# Altium footprint library BTB-P08.PcbLib: 3 footprints
Each footprint in its own frame and in the unit in brackets; x right, y up, seen from the top. Pads: shape width x height; smd on the part's side, far side on the other; paste and mask are expansions set on the pad; w line width, h text height; cw(c..) or ccw(c..) is an arc to the next point about the centre after c.
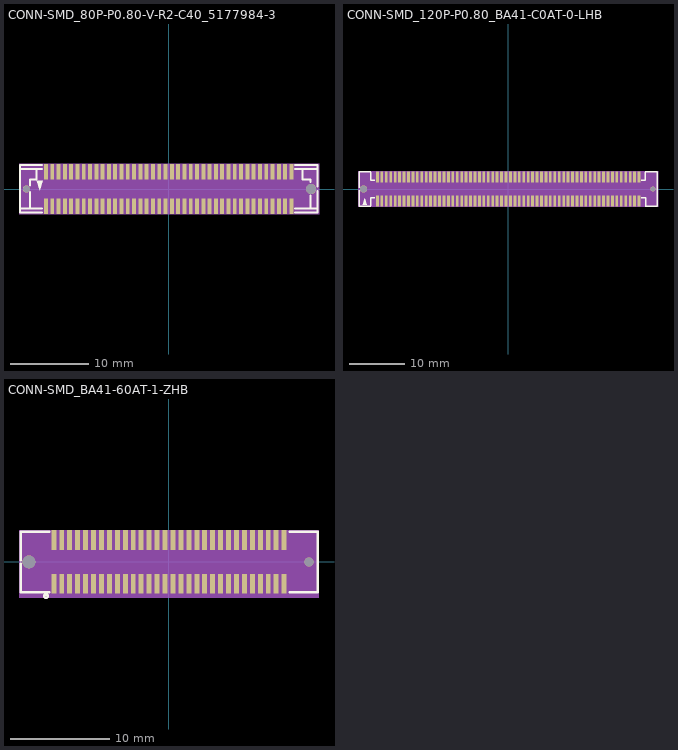
[diagram p0: the footprints below, top view; thin cyan lines are the x and y axes]

## CONN-SMD_80P-P0.80-V-R2-C40_5177984-3 [mm]
pads (82):
  rect 0.5x2 smd: 1(-15.6,2.2) 2(-15.6,-2.2) 3(-14.8,2.2) 4(-14.8,-2.2) 5(-14,2.2) 6(-14,-2.2) 7(-13.2,2.2) 8(-13.2,-2.2) 9(-12.4,2.2) 10(-12.4,-2.2) 11(-11.6,2.2) 12(-11.6,-2.2) 13(-10.8,2.2) 14(-10.8,-2.2) 15(-10,2.2) 16(-10,-2.2) 17(-9.2,2.2) 18(-9.2,-2.2) 19(-8.4,2.2) 20(-8.4,-2.2) 21(-7.6,2.2) 22(-7.6,-2.2) 23(-6.8,2.2) 24(-6.8,-2.2) 25(-6,2.2) 26(-6,-2.2) 27(-5.2,2.2) 28(-5.2,-2.2) 29(-4.4,2.2) 30(-4.4,-2.2) 31(-3.6,2.2) 32(-3.6,-2.2) 33(-2.8,2.2) 34(-2.8,-2.2) 35(-2,2.2) 36(-2,-2.2) 37(-1.2,2.2) 38(-1.2,-2.2) 39(-0.4,2.2) 40(-0.4,-2.2) 41(0.4,2.2) 42(0.4,-2.2) 43(1.2,2.2) 44(1.2,-2.2) 45(2,2.2) 46(2,-2.2) 47(2.8,2.2) 48(2.8,-2.2) 49(3.6,2.2) 50(3.6,-2.2) 51(4.4,2.2) 52(4.4,-2.2) 53(5.2,2.2) 54(5.2,-2.2) 55(6,2.2) 56(6,-2.2) 57(6.8,2.2) 58(6.8,-2.2) 59(7.6,2.2) 60(7.6,-2.2) 61(8.4,2.2) 62(8.4,-2.2) 63(9.2,2.2) 64(9.2,-2.2) 65(10,2.2) 66(10,-2.2) 67(10.8,2.2) 68(10.8,-2.2) 69(11.6,2.2) 70(11.6,-2.2) 71(12.4,2.2) 72(12.4,-2.2) 73(13.2,2.2) 74(13.2,-2.2) 75(14,2.2) 76(14,-2.2) 77(14.8,2.2) 78(14.8,-2.2) 79(15.6,2.2) 80(15.6,-2.2)
  round 0.9 hole 0.9 unplated: ""(-18.1,0)
  round 1.3 hole 1.3 unplated: ""(18.1,0)
Top Overlay:
  region: -16.8,1.037 -16,1.037 -16.4,-0.163
  lines w0.254: -18.9,-2.463 -16.081,-2.463 ; -18.9,2.537 -16.081,2.537 ; -17.602,-2.463 -17.6,-2.063 -17.6,-0.366 ; -17.6,0.44 -17.6,1.237 -16.8,1.237 -16.8,2.537 ; -16.081,-2.963 -18.9,-2.963 -18.9,3.037 -16.081,3.037 ; 16.081,-2.963 18.9,-2.963 18.9,-0.223 ; 16.081,-2.463 18.9,-2.463 ; 16.081,2.537 18.9,2.537 ; 16.081,3.037 18.9,3.037 18.9,0.297 ; 17.03,2.537 17.03,1.237 18,1.237 18,0.874 ; 18,-2.463 18,-0.8
Mechanical 4:
  circle w0.45: c-18.1,0 r0.225
  circle w0.65: c18.1,0 r0.325
  region: -19.027,3.204 19.106,3.204 19.106,-3.2 -19.027,-3.2
Mechanical 5:
  drawing of 82 lines, arcs and shapes, not listed
Mechanical 15:
  region: -16.8,1.033 -16,1.033 -16.4,-0.167
  lines w0.254: -18.9,-2.467 -16.081,-2.467 ; -18.9,2.533 -16.081,2.533 ; -17.602,-2.467 -17.6,-2.067 -17.6,-0.37 ; -17.6,0.436 -17.6,1.233 -16.8,1.233 -16.8,2.533 ; -16.081,-2.967 -18.9,-2.967 -18.9,3.033 -16.081,3.033 ; 16.081,-2.967 18.9,-2.967 18.9,-0.228 ; 16.081,-2.467 18.9,-2.467 ; 16.081,2.533 18.9,2.533 ; 16.081,3.033 18.9,3.033 18.9,0.293 ; 17.03,2.533 17.03,1.233 18,1.233 18,0.87 ; 18,-2.467 18,-0.804

## CONN-SMD_120P-P0.80_BA41-C0AT-0-LHB [mm]
pads (122):
  rect 0.5x2 smd: 1(-23.6,-2.2) 2(-23.6,2.2) 3(-22.8,-2.2) 4(-22.8,2.2) 5(-22,-2.2) 6(-22,2.2) 7(-21.2,-2.2) 8(-21.2,2.2) 9(-20.4,-2.2) 10(-20.4,2.2) 11(-19.6,-2.2) 12(-19.6,2.2) 13(-18.8,-2.2) 14(-18.8,2.2) 15(-18,-2.2) 16(-18,2.2) 17(-17.2,-2.2) 18(-17.2,2.2) 19(-16.4,-2.2) 20(-16.4,2.2) 21(-15.6,-2.2) 22(-15.6,2.2) 23(-14.8,-2.2) 24(-14.8,2.2) 25(-14,-2.2) 26(-14,2.2) 27(-13.2,-2.2) 28(-13.2,2.2) 29(-12.4,-2.2) 30(-12.4,2.2) 31(-11.6,-2.2) 32(-11.6,2.2) 33(-10.8,-2.2) 34(-10.8,2.2) 35(-10,-2.2) 36(-10,2.2) 37(-9.2,-2.2) 38(-9.2,2.2) 39(-8.4,-2.2) 40(-8.4,2.2) 41(-7.6,-2.2) 42(-7.6,2.2) 43(-6.8,-2.2) 44(-6.8,2.2) 45(-6,-2.2) 46(-6,2.2) 47(-5.2,-2.2) 48(-5.2,2.2) 49(-4.4,-2.2) 50(-4.4,2.2) 51(-3.6,-2.2) 52(-3.6,2.2) 53(-2.8,-2.2) 54(-2.8,2.2) 55(-2,-2.2) 56(-2,2.2) 57(-1.2,-2.2) 58(-1.2,2.2) 59(-0.4,-2.2) 60(-0.4,2.2) 61(0.4,-2.2) 62(0.4,2.2) 63(1.2,-2.2) 64(1.2,2.2) 65(2,-2.2) 66(2,2.2) 67(2.8,-2.2) 68(2.8,2.2) 69(3.6,-2.2) 70(3.6,2.2) 71(4.4,-2.2) 72(4.4,2.2) 73(5.2,-2.2) 74(5.2,2.2) 75(6,-2.2) 76(6,2.2) 77(6.8,-2.2) 78(6.8,2.2) 79(7.6,-2.2) 80(7.6,2.2) 81(8.4,-2.2) 82(8.4,2.2) 83(9.2,-2.2) 84(9.2,2.2) 85(10,-2.2) 86(10,2.2) 87(10.8,-2.2) 88(10.8,2.2) 89(11.6,-2.2) 90(11.6,2.2) 91(12.4,-2.2) 92(12.4,2.2) 93(13.2,-2.2) 94(13.2,2.2) 95(14,-2.2) 96(14,2.2) 97(14.8,-2.2) 98(14.8,2.2) 99(15.6,-2.2) 100(15.6,2.2) 101(16.4,-2.2) 102(16.4,2.2) 103(17.2,-2.2) 104(17.2,2.2) 105(18,-2.2) 106(18,2.2) 107(18.8,-2.2) 108(18.8,2.2) 109(19.6,-2.2) 110(19.6,2.2) 111(20.4,-2.2) 112(20.4,2.2) 113(21.2,-2.2) 114(21.2,2.2) 115(22,-2.2) 116(22,2.2) 117(22.8,-2.2) 118(22.8,2.2) 119(23.6,-2.2) 120(23.6,2.2)
  round 1.3 hole 1.3 unplated: ""(-26.1,0)
  round 0.9 hole 0.9 unplated: ""(26.1,0)
Top Overlay:
  region: -25.49,-2.85 -26.29,-2.85 -25.89,-1.65
  lines w0.254: -26.9,-0.26 -26.9,-3.1 -24.781,-3.1 ; -26.9,0.26 -26.9,3.1 -24.8,3.1 ; -24.8,3 -24.8,1.6 -24.081,1.6 ; -24.781,-3 -24.781,-1.6 -24.081,-1.6 ; 24.044,-1.6 24.783,-1.6 24.783,-3 ; 24.044,1.6 24.75,1.6 24.75,3 ; 24.75,3.1 26.863,3.1 ; 24.763,-3.1 26.863,-3.1 ; 26.9,-3.1 26.9,3.1
Mechanical 4:
  circle w0.45: c26.1,0 r0.225
  circle w0.65: c-26.1,0 r0.325
  region: -27.106,3.227 27.027,3.227 27.027,-3.227 -27.106,-3.227
Mechanical 5:
  drawing of 122 lines, arcs and shapes, not listed

## CONN-SMD_BA41-60AT-1-ZHB [mm]
pads (62):
  rect 0.5x2 smd: 1(-11.6,-2.2) 2(-11.6,2.2) 3(-10.8,-2.2) 4(-10.8,2.2) 5(-10,-2.2) 6(-10,2.2) 7(-9.2,-2.2) 8(-9.2,2.2) 9(-8.4,-2.2) 10(-8.4,2.2) 11(-7.6,-2.2) 12(-7.6,2.2) 13(-6.8,-2.2) 14(-6.8,2.2) 15(-6,-2.2) 16(-6,2.2) 17(-5.2,-2.2) 18(-5.2,2.2) 19(-4.4,-2.2) 20(-4.4,2.2) 21(-3.6,-2.2) 22(-3.6,2.2) 23(-2.8,-2.2) 24(-2.8,2.2) 25(-2,-2.2) 26(-2,2.2) 27(-1.2,-2.2) 28(-1.2,2.2) 29(-0.4,-2.2) 30(-0.4,2.2) 31(0.4,-2.2) 32(0.4,2.2) 33(1.2,-2.2) 34(1.2,2.2) 35(2,-2.2) 36(2,2.2) 37(2.8,-2.2) 38(2.8,2.2) 39(3.6,-2.2) 40(3.6,2.2) 41(4.4,-2.2) 42(4.4,2.2) 43(5.2,-2.2) 44(5.2,2.2) 45(6,-2.2) 46(6,2.2) 47(6.8,-2.2) 48(6.8,2.2) 49(7.6,-2.2) 50(7.6,2.2) 51(8.4,-2.2) 52(8.4,2.2) 53(9.2,-2.2) 54(9.2,2.2) 55(10,-2.2) 56(10,2.2) 57(10.8,-2.2) 58(10.8,2.2) 59(11.6,-2.2) 60(11.6,2.2)
  round 1.3 hole 1.3 unplated: ""(-14.1,0)
  round 0.9 hole 0.9 unplated: ""(14.1,0)
Top Overlay:
  circle w0.254: c-12.383,-3.429 r0.18
  lines w0.254: -14.923,-0.173 -14.923,-3.048 -12.081,-3.048 ; -14.923,0.173 -14.923,3.048 -12.081,3.048 ; 12.141,-3.048 14.983,-3.048 14.983,3.048 12.141,3.048
Mechanical 4:
  circle w0.45: c14.1,0 r0.225
  circle w0.65: c-14.1,0 r0.325
  region: -15.106,3.2 15.11,3.2 15.11,-3.607 -15.106,-3.607
Mechanical 5:
  drawing of 62 lines, arcs and shapes, not listed